# EAGLE library part MCP6S22 (library mcp6s22 DIP)
mcp6s22 Single-Ended, Rail-to-Rail I/O, Low Gain PGA by Rangana tennakoon
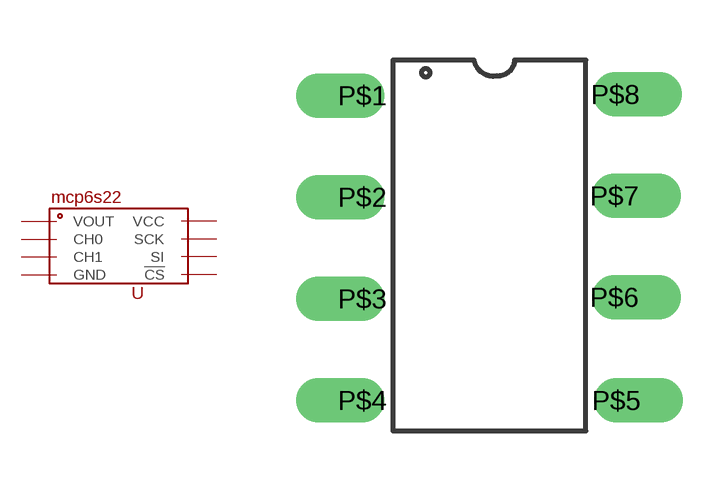
[diagram p0: symbol with the pads of DIP8; footprint DIP8]

Designator prefix -

## MCP6S22DIP8  [DIP8]
P$1  VOUT
P$2  CH0
P$3  CH1
P$4  GND
P$5  !CS!
P$6  SI
P$7  SCK
P$8  VCC

## Footprint DIP8 (pad centres in mm)
drill 0.6 offset: P$1 -5.08,2.54; P$2 -5.08,0; P$3 -5.08,-2.54; P$4 -5.08,-5.08; P$5 1.27,-5.08; P$6 1.22,-2.501; P$7 1.22,0.034; P$8 1.244,2.57